# Altium footprint library RELAY_HF46F_005-HS1.PcbLib: 1 footprints
Each footprint in its own frame and in the unit in brackets; x right, y up, seen from the top. Pads: shape width x height; smd on the part's side, far side on the other; paste and mask are expansions set on the pad; w line width, h text height; cw(c..) or ccw(c..) is an arc to the next point about the centre after c.
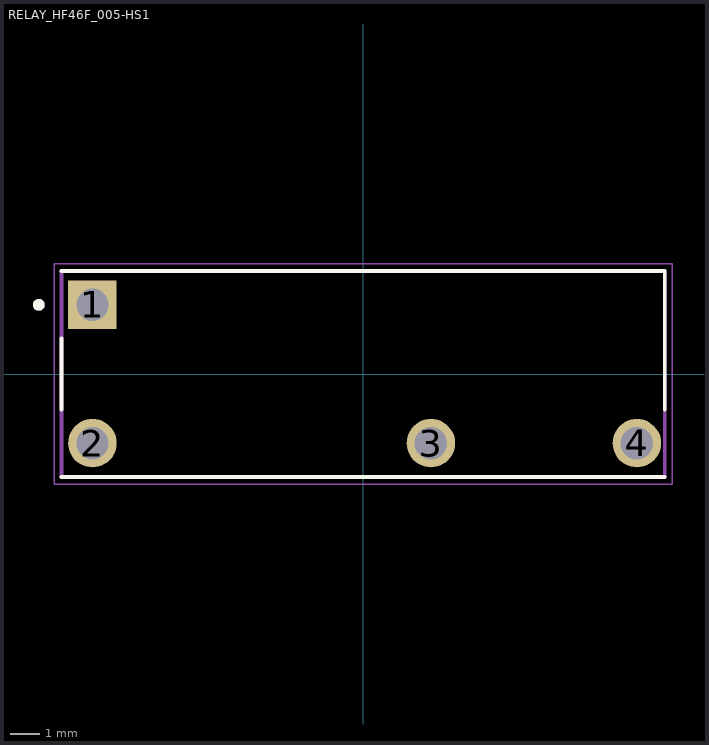
[diagram p0: the footprint, top view; thin cyan lines are the x and y axes]

## RELAY_HF46F_005-HS1 [mm]
height 15.6
pads (4):
  rect 1.65x1.65 / inner round 1.65 / far side rect 1.65x1.65 hole 1.1: 1(-9.2,2.35)
  round 1.65 hole 1.1: 2(-9.2,-2.35) 3(2.3,-2.35) 4(9.3,-2.35)
Top Overlay:
  circle w0.2: c-11.025,2.35 r0.1
  lines w0.127: -10.25,-3.495 -10.25,-3.5 10.25,-3.5 10.25,-3.495 ; -10.25,-1.205 -10.25,1.205 ; -10.25,3.495 -10.25,3.5 10.25,3.5 10.25,-1.205
Mechanical 13:
  circle w0.2: c-11.025,2.35 r0.1
  lines w0.127: -10.25,-3.5 10.25,-3.5 10.25,3.5 -10.25,3.5 -10.25,-3.5
Mechanical 15:
  lines w0.05: -10.5,-3.75 10.5,-3.75 10.5,3.75 -10.5,3.75 -10.5,-3.75
3D body "HF46F_005-HS1.STEP": height 15.6, standoff -3.7, extent -10.25,-3.5 10.25,3.5